# EAGLE library part ZDT1048TA (library ZDT1048TA)
None
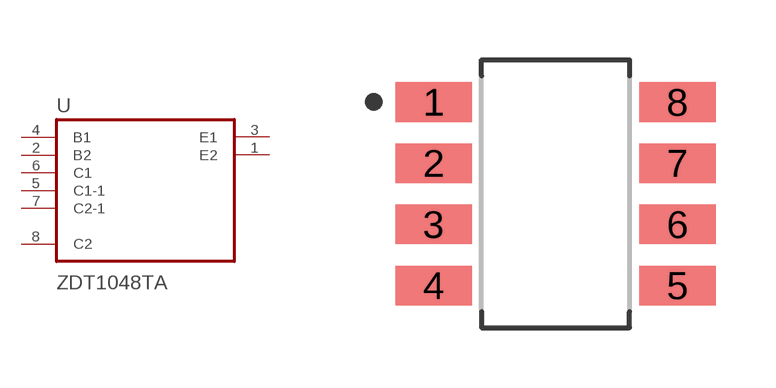
[diagram p0: symbol with the pads of SOT153P700X170-8N; footprint SOT153P700X170-8N]

Designator prefix U

## ZDT1048TA (Availability: Unavailable; Description: Trans GP BJT NPN 17.5V 5A 8-Pin SM8 T/R Trans GP BJT NPN 17.5V 5A 8-Pin SM8 T/R; MF: Diodes Inc.; MP: ZDT1048TA; Package: SOT-223 Diodes Inc.; Price: None)  [SOT153P700X170-8N]
1  E2  out
2  B2  in
3  E1  out
4  B1  in
5  C1-1  in
6  C1  in
7  C2-1  in
8  C2

## Footprint SOT153P700X170-8N (pad centres in mm)
smd 1.91 x 0.99: 1 -3.05,2.295; 2 -3.05,0.765; 3 -3.05,-0.765; 4 -3.05,-2.295; 5 3.05,-2.295; 6 3.05,-0.765; 7 3.05,0.765; 8 3.05,2.295